# Altium footprint library SinkBorad-Type-C-IN-16Pin.PcbLib: 1 footprints
Each footprint in its own frame and in the unit in brackets; x right, y up, seen from the top. Pads: shape width x height; smd on the part's side, far side on the other; paste and mask are expansions set on the pad; w line width, h text height; cw(c..) or ccw(c..) is an arc to the next point about the centre after c.
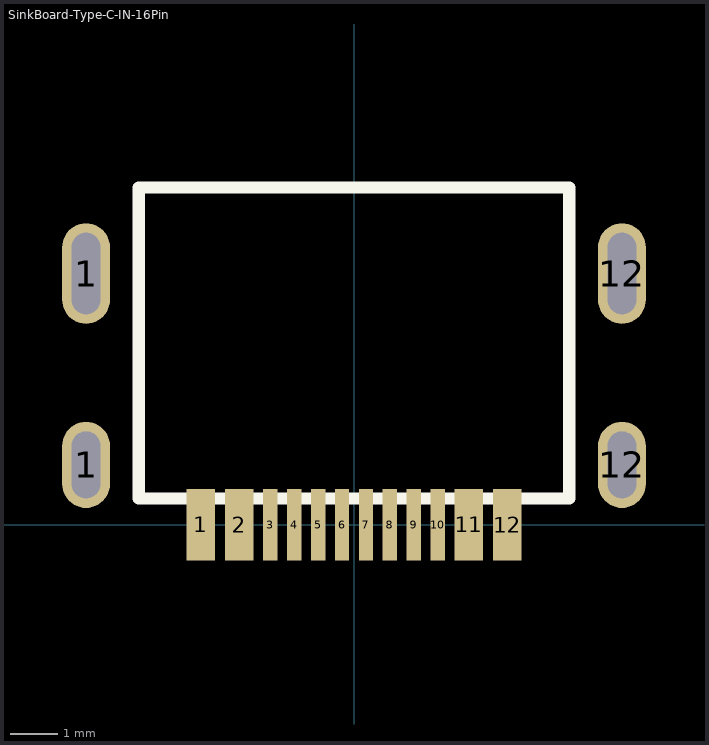
[diagram p0: the footprint, top view; thin cyan lines are the x and y axes]

## SinkBoard-Type-C-IN-16Pin [mm]
height 0.1
pads (16):
  oval 1x1.8 hole 1.4 slot 0.6 at 0 deg: 1(-5.6,1.25) 12(5.6,1.25)
  oval 1x2.1 hole 1.7 slot 0.6 at 0 deg: 1(-5.6,5.25) 12(5.6,5.25)
  rect 0.6x1.5 smd: 1(-3.2,0) 2(-2.4,0) 11(2.4,0) 12(3.2,0)
  rect 0.3x1.5 smd: 3(-1.75,0) 4(-1.25,0) 5(-0.75,0) 6(-0.25,0) 7(0.25,0) 8(0.75,0) 9(1.25,0) 10(1.75,0)
Top Overlay:
  lines w0.254: -4.5,0.55 -4.5,7.05 4.5,7.05 4.5,0.55 -4.5,0.55